# Altium footprint library resistor-power.PCBLIB: 89 footprints (part 2 of 6)
Each footprint in its own frame and in the unit in brackets; x right, y up, seen from the top. Pads: shape width x height; smd on the part's side, far side on the other; paste and mask are expansions set on the pad; w line width, h text height; cw(c..) or ccw(c..) is an arc to the next point about the centre after c.
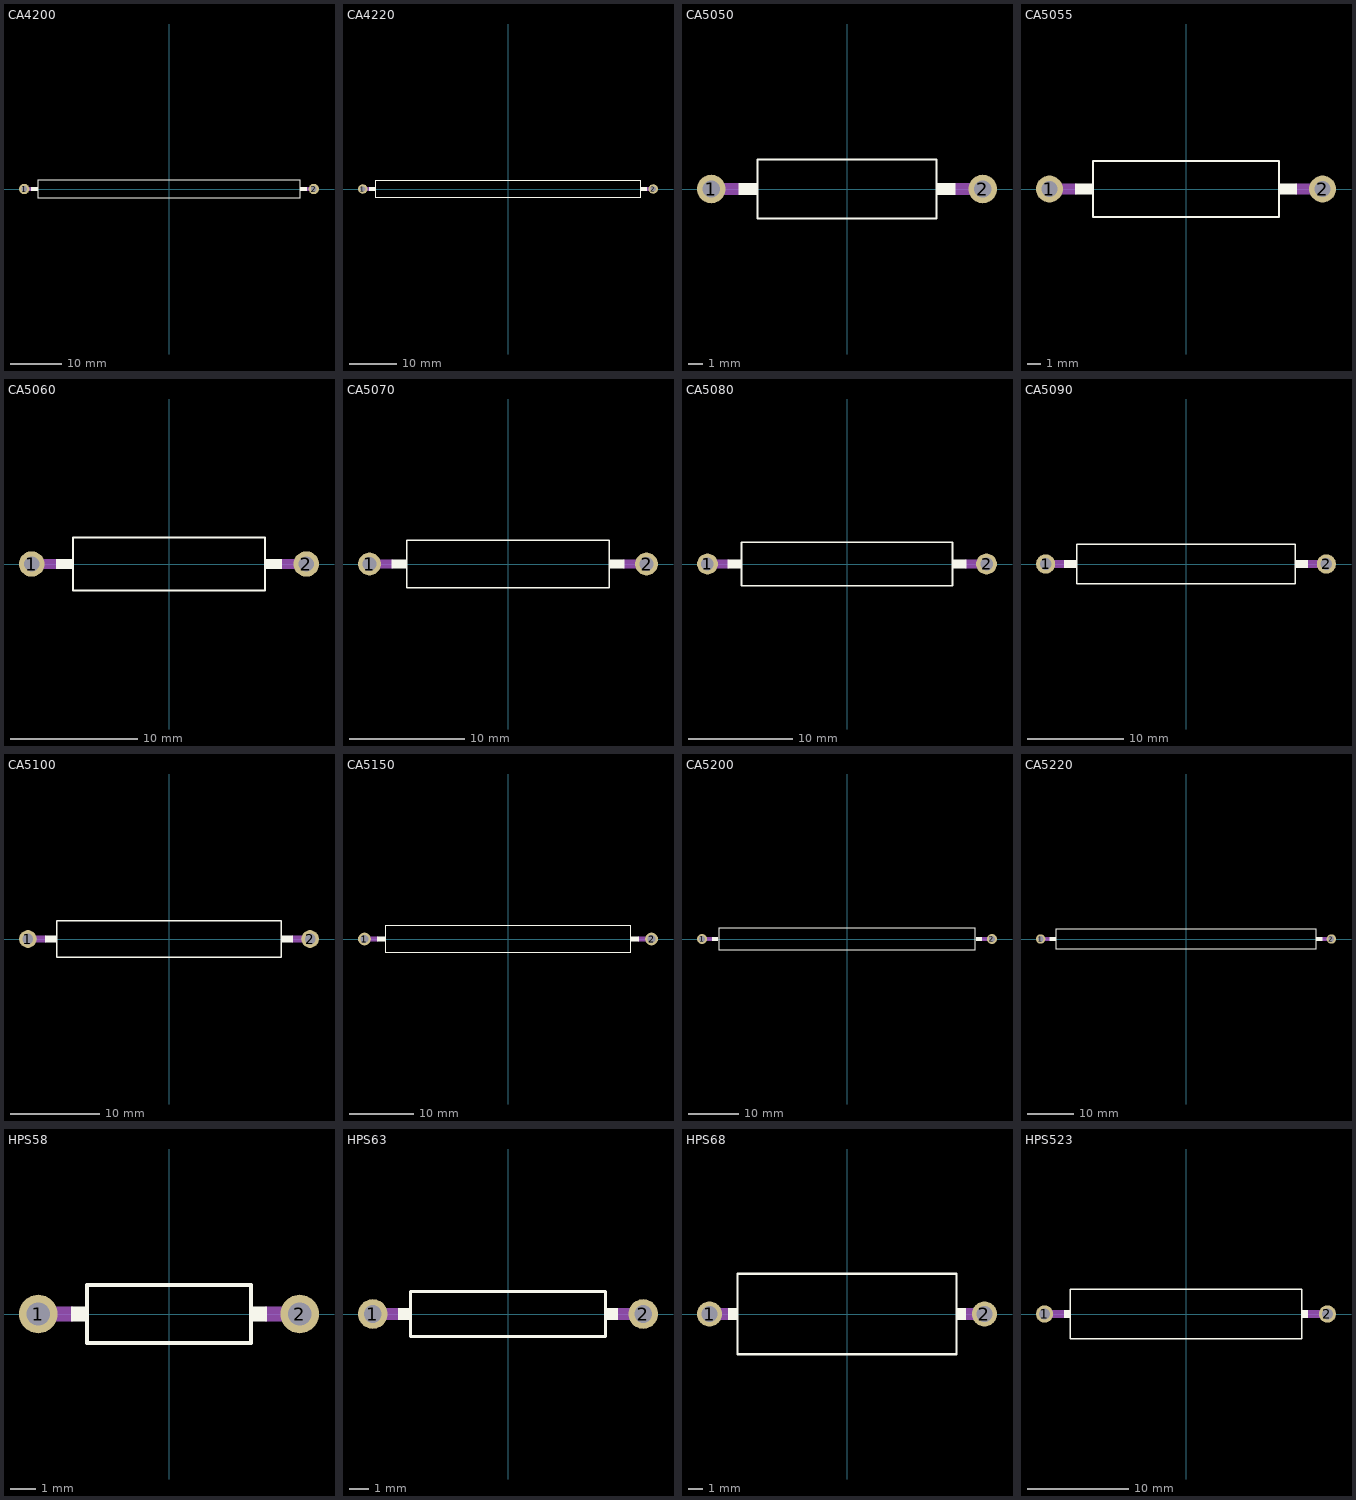
[diagram p1: the footprints below, top view; thin cyan lines are the x and y axes]

## CA4200 [mm]
pads (2):
  round 2 hole 1.1: 1(-27.94,0) 2(27.94,0)
Top Overlay:
  rectangle: -26.65,-0.406 -25.38,0.406
  rectangle: 25.38,-0.406 26.65,0.406
  lines w0.152: -25.315,-1.725 25.315,-1.725 25.315,1.725 -25.315,1.725 -25.315,-1.725
Mechanical 16:
  lines w0.813: -27.94,0 -26.65,0 ; 26.65,0 27.94,0

## CA4220 [mm]
pads (2):
  round 2 hole 1.1: 1(-30.48,0) 2(30.48,0)
Top Overlay:
  rectangle: -29.19,-0.406 -27.92,0.406
  rectangle: 27.92,-0.406 29.19,0.406
  lines w0.152: -27.855,-1.725 27.855,-1.725 27.855,1.725 -27.855,1.725 -27.855,-1.725
Mechanical 16:
  lines w0.813: -30.48,0 -29.19,0 ; 29.19,0 30.48,0

## CA5050 [mm]
pads (2):
  round 2 hole 1.2: 1(-9.525,0) 2(9.525,0)
Top Overlay:
  rectangle: -7.62,-0.406 -6.35,0.406
  rectangle: 6.35,-0.406 7.62,0.406
  lines w0.152: -6.28,-2.075 6.28,-2.075 6.28,2.075 -6.28,2.075 -6.28,-2.075
Mechanical 16:
  lines w0.813: -9.525,0 -7.62,0 ; 7.62,0 9.525,0

## CA5055 [mm]
pads (2):
  round 2 hole 1.2: 1(-10.16,0) 2(10.16,0)
Top Overlay:
  rectangle: -8.245,-0.406 -6.975,0.406
  rectangle: 6.975,-0.406 8.245,0.406
  lines w0.152: -6.905,-2.075 6.905,-2.075 6.905,2.075 -6.905,2.075 -6.905,-2.075
Mechanical 16:
  lines w0.813: -10.16,0 -8.245,0 ; 8.245,0 10.16,0

## CA5060 [mm]
pads (2):
  round 2 hole 1.2: 1(-10.795,0) 2(10.795,0)
Top Overlay:
  rectangle: -8.88,-0.406 -7.61,0.406
  rectangle: 7.61,-0.406 8.88,0.406
  lines w0.152: -7.54,-2.075 7.54,-2.075 7.54,2.075 -7.54,2.075 -7.54,-2.075
Mechanical 16:
  lines w0.813: -10.795,0 -8.88,0 ; 8.88,0 10.795,0

## CA5070 [mm]
pads (2):
  round 2 hole 1.2: 1(-12.065,0) 2(12.065,0)
Top Overlay:
  rectangle: -10.15,-0.406 -8.88,0.406
  rectangle: 8.88,-0.406 10.15,0.406
  lines w0.152: -8.81,-2.075 8.81,-2.075 8.81,2.075 -8.81,2.075 -8.81,-2.075
Mechanical 16:
  lines w0.813: -12.065,0 -10.15,0 ; 10.15,0 12.065,0

## CA5080 [mm]
pads (2):
  round 2 hole 1.2: 1(-13.335,0) 2(13.335,0)
Top Overlay:
  rectangle: -11.42,-0.406 -10.15,0.406
  rectangle: 10.15,-0.406 11.42,0.406
  lines w0.152: -10.08,-2.075 10.08,-2.075 10.08,2.075 -10.08,2.075 -10.08,-2.075
Mechanical 16:
  lines w0.813: -13.335,0 -11.42,0 ; 11.42,0 13.335,0

## CA5090 [mm]
pads (2):
  round 2 hole 1.2: 1(-14.605,0) 2(14.605,0)
Top Overlay:
  rectangle: -12.69,-0.406 -11.42,0.406
  rectangle: 11.42,-0.406 12.69,0.406
  lines w0.152: -11.35,-2.075 11.35,-2.075 11.35,2.075 -11.35,2.075 -11.35,-2.075
Mechanical 16:
  lines w0.813: -14.605,0 -12.69,0 ; 12.69,0 14.605,0

## CA5100 [mm]
pads (2):
  round 2 hole 1.2: 1(-15.875,0) 2(15.875,0)
Top Overlay:
  rectangle: -13.96,-0.406 -12.69,0.406
  rectangle: 12.69,-0.406 13.96,0.406
  lines w0.152: -12.62,-2.075 12.62,-2.075 12.62,2.075 -12.62,2.075 -12.62,-2.075
Mechanical 16:
  lines w0.813: -15.875,0 -13.96,0 ; 13.96,0 15.875,0

## CA5150 [mm]
pads (2):
  round 2 hole 1.2: 1(-22.225,0) 2(22.225,0)
Top Overlay:
  rectangle: -20.31,-0.406 -19.04,0.406
  rectangle: 19.04,-0.406 20.31,0.406
  lines w0.152: -18.97,-2.075 18.97,-2.075 18.97,2.075 -18.97,2.075 -18.97,-2.075
Mechanical 16:
  lines w0.813: -22.225,0 -20.31,0 ; 20.31,0 22.225,0

## CA5200 [mm]
pads (2):
  round 2 hole 1.2: 1(-28.575,0) 2(28.575,0)
Top Overlay:
  rectangle: -26.66,-0.406 -25.39,0.406
  rectangle: 25.39,-0.406 26.66,0.406
  lines w0.152: -25.32,-2.075 25.32,-2.075 25.32,2.075 -25.32,2.075 -25.32,-2.075
Mechanical 16:
  lines w0.813: -28.575,0 -26.66,0 ; 26.66,0 28.575,0

## CA5220 [mm]
pads (2):
  round 2 hole 1.2: 1(-31.115,0) 2(31.115,0)
Top Overlay:
  rectangle: -29.2,-0.406 -27.93,0.406
  rectangle: 27.93,-0.406 29.2,0.406
  lines w0.152: -27.86,-2.075 27.86,-2.075 27.86,2.075 -27.86,2.075 -27.86,-2.075
Mechanical 16:
  lines w0.813: -31.115,0 -29.2,0 ; 29.2,0 31.115,0

## HPS58 [mm]
pads (2):
  round 1.5 hole 0.9: 1(-5.08,0) 2(5.08,0)
Top Overlay:
  rectangle: -3.81,-0.3 -3.255,0.3
  rectangle: 3.255,-0.3 3.81,0.3
  lines w0.152: -3.18,-1.125 3.18,-1.125 3.18,1.125 -3.18,1.125 -3.18,-1.125
Mechanical 16:
  lines w0.6: -5.08,0 -3.81,0 ; 3.81,0 5.08,0

## HPS63 [mm]
pads (2):
  round 1.5 hole 0.9: 1(-6.83,0) 2(6.83,0)
Top Overlay:
  rectangle: -5.56,-0.3 -5.005,0.3
  rectangle: 5.005,-0.3 5.56,0.3
  lines w0.152: -4.93,-1.125 4.93,-1.125 4.93,1.125 -4.93,1.125 -4.93,-1.125
Mechanical 16:
  lines w0.6: -6.83,0 -5.56,0 ; 5.56,0 6.83,0

## HPS68 [mm]
pads (2):
  round 1.7 hole 1.1: 1(-9.33,0) 2(9.33,0)
Top Overlay:
  rectangle: -8.06,-0.4 -7.505,0.4
  rectangle: 7.505,-0.4 8.06,0.4
  lines w0.152: -7.43,-2.725 7.43,-2.725 7.43,2.725 -7.43,2.725 -7.43,-2.725
Mechanical 16:
  lines w0.8: -9.33,0 -8.06,0 ; 8.06,0 9.33,0

## HPS523 [mm]
pads (2):
  round 1.7 hole 1.1: 1(-13.97,0) 2(13.97,0)
Top Overlay:
  rectangle: -12.06,-0.4 -11.505,0.4
  rectangle: 11.505,-0.4 12.06,0.4
  lines w0.152: -11.43,-2.425 11.43,-2.425 11.43,2.425 -11.43,2.425 -11.43,-2.425
Mechanical 16:
  lines w0.8: -13.97,0 -12.06,0 ; 12.06,0 13.97,0